# Altium schematic symbol library BZX384-C5V1,115.SchLib: 1 symbol
Pins are listed as number, name and electrical type; pins without a type are passive.

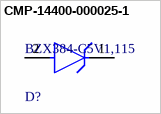
[diagram p0: symbol CMP-14400-000025-1]

## CMP-14400-000025-1
designator D?, comment BZX384-C5V1,115
DIODE ZENER 5.1V 300MW SOD323
footprint FP-SOD323-IPC_A
footprint FP-SOD323-MFG
footprint FP-SOD323-IPC_C
footprint FP-SOD323-IPC_B
pins: 1 C, 2 A